# EAGLE library part RC4560_RC4560 (library Low.Noise.Current.Source)
RC4560 Op-Amp Texas Instruments
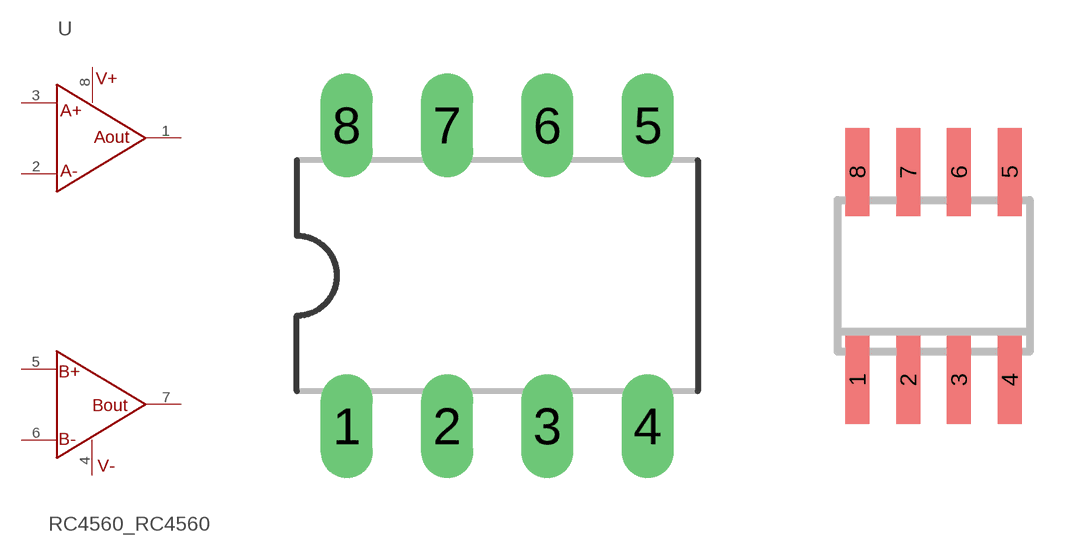
[diagram p3: symbol with the pads of RC4560_DIL08; footprints RC4560_DIL08, RC4560_SO8]

Designator prefix U

## RC4560_RC4560  [RC4560_DIL08]
1  OUTA  out
2  NEGA  in
3  POSA  in
4  V-  pwr
5  POSB  in
6  NEGB  in
7  OUTB  out
8  V+  pwr

## RC4560_RC4560S08-RC4560  [RC4560_SO8]
Pads as for RC4560_DIL08

## RC4560_RC4560SOP65  [RC4560_SOP65P490X109-8N]
Pads as for RC4560_DIL08

## Footprint RC4560_DIL08 (pad centres in mm)
Dual In Line Package
drill 0.813 long: 1 -3.81,-3.81; 2 -1.27,-3.81; 3 1.27,-3.81; 4 3.81,-3.81; 5 3.81,3.81; 6 1.27,3.81; 7 -1.27,3.81; 8 -3.81,3.81

## Footprint RC4560_SO8 (pad centres in mm)
SMALL OUTLINE INTEGRATED CIRCUIT
smd 0.6 x 2.2: 1 -1.905,-2.6; 2 -0.635,-2.6; 3 0.635,-2.6; 4 1.905,-2.6; 5 1.905,2.6; 6 0.635,2.6; 7 -0.635,2.6; 8 -1.905,2.6

## Footprint RC4560_SOP65P490X109-8N (pad centres in mm)
smd 1.372 x 0.457: 1 -2.21,0.965; 2 -2.21,0.33; 3 -2.21,-0.33; 4 -2.21,-0.965; 5 2.21,-0.965; 6 2.21,-0.33; 7 2.21,0.33; 8 2.21,0.965